# Altium footprint library 六脚LED.PcbLib: 1 footprints
Each footprint in its own frame and in the unit in brackets; x right, y up, seen from the top. Pads: shape width x height; smd on the part's side, far side on the other; paste and mask are expansions set on the pad; w line width, h text height; cw(c..) or ccw(c..) is an arc to the next point about the centre after c.
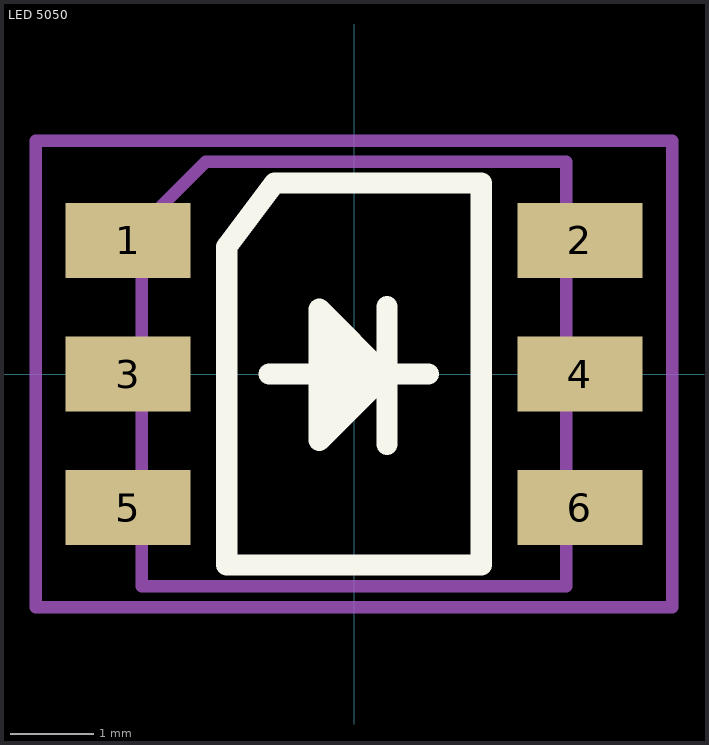
[diagram p0: the footprint, top view; thin cyan lines are the x and y axes]

## LED 5050 [mm] "5050LED"
pads (6):
  rect 1.5x0.9 smd: 1(-2.705,1.6) 2(2.705,1.6) 3(-2.705,0) 4(2.705,0) 5(-2.705,-1.6) 6(2.705,-1.6)
Top Overlay:
  lines w0.254: -1.016,0 0.889,0 ; -0.254,0.559 -0.229,-0.432 0.254,0 0,0.254 0,0 0,-0.254 ; 0.356,-0.02 -0.417,-0.792 -0.417,0.775 0.396,-0.038 ; 0.396,-0.841 0.396,0.805 ; -1.524,-2.286 -1.524,1.524 -0.953,2.286 1.524,2.286 1.524,-2.286 -1.524,-2.286
Mechanical 13:
  lines w0.15: -2.54,-2.54 -2.54,1.778 -1.778,2.54 2.54,2.54 2.54,-2.54 -2.54,-2.54
Mechanical 15:
  circle w0.05: c0,0 r0.35
  lines w0.05: -0.5,0 0.5,0 ; 0,-0.5 0,0.5
  lines w0.15: -3.81,-2.794 -3.81,2.794 3.81,2.794 3.81,-2.794 -3.81,-2.794
3D body: height 1.65, standoff 0.05, extent -2.7,-2.5 2.7,2.5
3D body: height 1.65, standoff 0.77, extent -1.995,-1.995 1.995,1.995